# EAGLE library part PCA9685PCB (library PCA9685PCB)
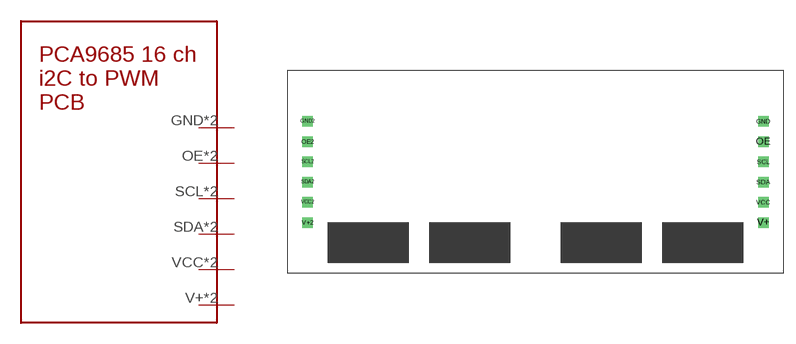
[diagram p0: symbol with the pads of PCA9685PCB; footprint PCA9685PCB]

Designator prefix -

## PCA9685PCBPCB  [PCA9685PCB]
GND  GND
GND2  GND
OE  OE
OE2  OE
SCL  SCL
SCL2  SCL
SDA  SDA
SDA2  SDA
V+  V+
V+2  V+
VCC  VCC
VCC2  VCC

## Footprint PCA9685PCB (pad centres in mm)
drill 0.8 square: GND 59.69,19.05; GND2 2.54,19.05; OE 59.69,16.51; OE2 2.54,16.51; SCL 59.69,13.97; SCL2 2.54,13.97; SDA 59.69,11.43; SDA2 2.54,11.43; V+ 59.69,6.35; V+2 2.54,6.35; VCC 59.69,8.89; VCC2 2.54,8.89